# EAGLE library part SGTL5000XNAA3 (library Common-Parts-Library-Eagle)
Audio Codec 1ADC / 1DAC 32-Pin QFN EP
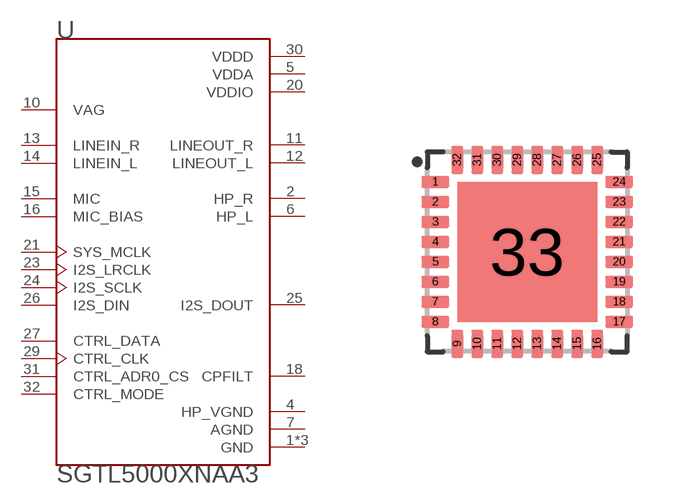
[diagram p45: symbol with the pads of SGTL5000XNAA3_QFN50P500X500X100-33N; footprint SGTL5000XNAA3_QFN50P500X500X100-33N]

Designator prefix U

## SGTL5000XNAA3 (MANUFACTURER: Freescale Semiconductor)  [SGTL5000XNAA3_QFN50P500X500X100-33N]
1  GND  pwr
2  HP_R  out
3  GND  pwr
4  HP_VGND  pwr
5  VDDA  pwr
6  HP_L  out
7  AGND  pwr
10  VAG  in
11  LINEOUT_R  out
12  LINEOUT_L  out
13  LINEIN_R  in
14  LINEIN_L  in
15  MIC  in
16  MIC_BIAS  in
18  CPFILT  pas
20  VDDIO  pwr
21  SYS_MCLK  in
23  I2S_LRCLK  in
24  I2S_SCLK  in
25  I2S_DOUT  out
26  I2S_DIN  in
27  CTRL_DATA  in
29  CTRL_CLK  in
30  VDDD  pwr
31  CTRL_ADR0_CS  in
32  CTRL_MODE  in
33  GND  pwr

## Footprint SGTL5000XNAA3_QFN50P500X500X100-33N (pad centres in mm)
smd 0.7 x 0.3: 1 -2.3,1.75; 2 -2.3,1.25; 3 -2.3,0.75; 4 -2.3,0.25; 5 -2.3,-0.25; 6 -2.3,-0.75; 7 -2.3,-1.25; 8 -2.3,-1.75; 17 2.3,-1.75; 18 2.3,-1.25; 19 2.3,-0.75; 20 2.3,-0.25; 21 2.3,0.25; 22 2.3,0.75; 23 2.3,1.25; 24 2.3,1.75
smd 0.3 x 0.7: 9 -1.75,-2.3; 10 -1.25,-2.3; 11 -0.75,-2.3; 12 -0.25,-2.3; 13 0.25,-2.3; 14 0.75,-2.3; 15 1.25,-2.3; 16 1.75,-2.3; 25 1.75,2.3; 26 1.25,2.3; 27 0.75,2.3; 28 0.25,2.3; 29 -0.25,2.3; 30 -0.75,2.3; 31 -1.25,2.3; 32 -1.75,2.3
smd 3.5 x 3.5: 33 0,0